# EAGLE library part FDC6305 (library user_tr_fet_igbt)
デュアルNchMOSFET ゲート・ソース間絶対最大定格8v 秋月電子通商通販コード[I-06003]
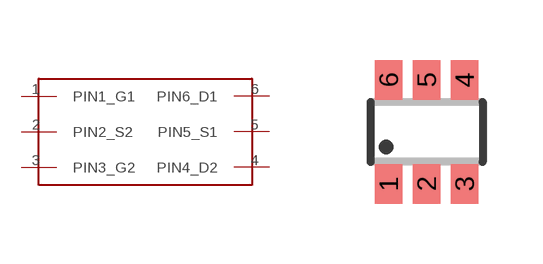
[diagram p0: symbol with the pads of SSOT6; footprint SSOT6]

Designator prefix -

## FDC6305  [SSOT6]
1  PIN1_G1
2  PIN2_S2
3  PIN3_G2
4  PIN4_D2
5  PIN5_S1
6  PIN6_D1

## Footprint SSOT6 (pad centres in mm)
SuperSOT-6 sot23-6も含まれる
smd 0.69 x 0.99: 1 -0.95,-1.3; 2 0,-1.3; 3 0.95,-1.3; 4 0.95,1.3; 5 0,1.3; 6 -0.95,1.3